# Altium footprint library MPU9250SENSOR.PcbLib: 1 footprints
Each footprint in its own frame and in the unit in brackets; x right, y up, seen from the top. Pads: shape width x height; smd on the part's side, far side on the other; paste and mask are expansions set on the pad; w line width, h text height; cw(c..) or ccw(c..) is an arc to the next point about the centre after c.
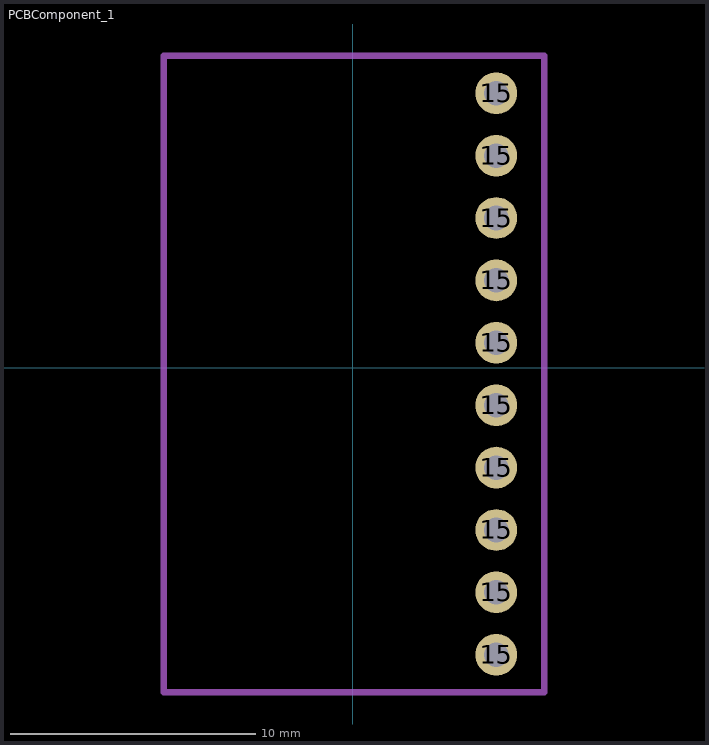
[diagram p0: the footprint, top view; thin cyan lines are the x and y axes]

## PCBComponent_1 [mm]
pads (10):
  round 1.7 hole 1: 15(5.842,-11.684) 15(5.842,-9.144) 15(5.842,-6.604) 15(5.842,-4.064) 15(5.842,-1.524) 15(5.842,1.016) 15(5.842,3.556) 15(5.842,6.096) 15(5.842,8.636) 15(5.842,11.176)
Mechanical 1:
  lines w0.254: -7.698,-13.208 -7.698,9.73 -7.698,12.7 7.796,12.7 7.796,-13.208 -7.698,-13.208
3D body "MPU-9250.stp": height 1.7, standoff -11.07, extent -7.5,-12.954 7.5,12.446